# EAGLE library part AT89C55S (library 0atmel89cxxxx)
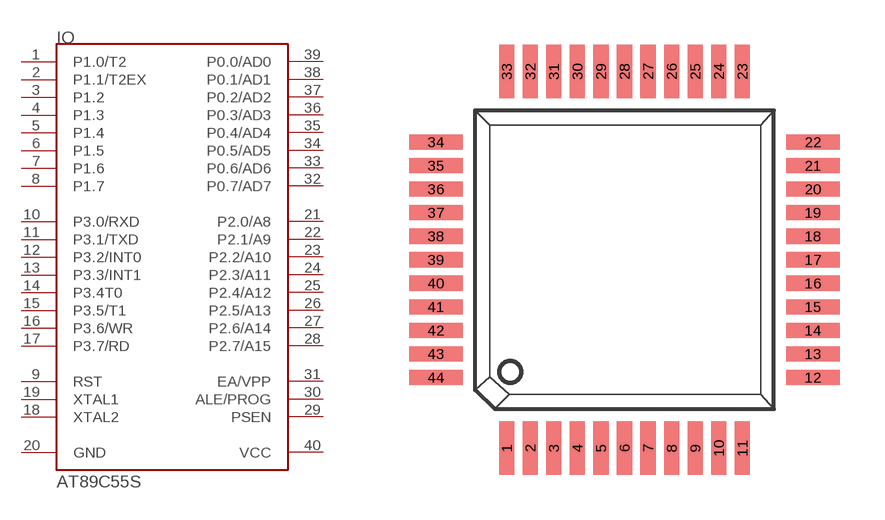
[diagram p5: symbol with the pads of PQFP; footprint PQFP]

Designator prefix IO

## AT89C55S  [PQFP]
1  P1.0/T2
2  P1.1/T2EX
3  P1.2
4  P1.3
5  P1.4
6  P1.5
7  P1.6
8  P1.7
9  RST
10  P3.0/RXD
11  P3.1/TXD
12  P3.2/INT0
13  P3.3/INT1
14  P3.4T0
15  P3.5/T1
16  P3.6/WR
17  P3.7/RD
18  XTAL2
19  XTAL1
20  GND  pwr
21  P2.0/A8
22  P2.1/A9
23  P2.2/A10
24  P2.3/A11
25  P2.4/A12
26  P2.5/A13
27  P2.6/A14
28  P2.7/A15
29  PSEN
30  ALE/PROG
31  EA/VPP
32  P0.7/AD7
33  P0.6/AD6
34  P0.5/AD5
35  P0.4/AD4
36  P0.3/AD3
37  P0.2/AD2
38  P0.1/AD1
39  P0.0/AD0
40  VCC  pwr

## Footprint PQFP (pad centres in mm)
smd 0.508 x 1.778: 1 -4.217,-7.289; 2 -3.43,-7.289; 3 -2.642,-7.289; 4 -1.855,-7.289; 5 -1.067,-7.289; 6 -0.28,-7.289; 7 0.507,-7.289; 8 1.295,-7.289; 9 2.082,-7.289; 10 2.87,-7.289; 11 3.657,-7.289; 23 3.657,5.309; 24 2.87,5.309; 25 2.082,5.309; 26 1.295,5.309; 27 0.507,5.309; 28 -0.28,5.309; 29 -1.067,5.309; 30 -1.855,5.309; 31 -2.642,5.309; 32 -3.43,5.309; 33 -4.217,5.309
smd 1.778 x 0.508: 12 6.019,-4.927; 13 6.019,-4.14; 14 6.019,-3.352; 15 6.019,-2.565; 16 6.019,-1.777; 17 6.019,-0.99; 18 6.019,-0.203; 19 6.019,0.585; 20 6.019,1.372; 21 6.019,2.16; 22 6.019,2.947; 34 -6.579,2.947; 35 -6.579,2.16; 36 -6.579,1.372; 37 -6.579,0.585; 38 -6.579,-0.203; 39 -6.579,-0.99; 40 -6.579,-1.777; 41 -6.579,-2.565; 42 -6.579,-3.352; 43 -6.579,-4.14; 44 -6.579,-4.927